# Altium footprint library WillsFootPrintLibrary.PcbLib: 33 footprints (part 3 of 3)
Each footprint in its own frame and in the unit in brackets; x right, y up, seen from the top. Pads: shape width x height; smd on the part's side, far side on the other; paste and mask are expansions set on the pad; w line width, h text height; cw(c..) or ccw(c..) is an arc to the next point about the centre after c.
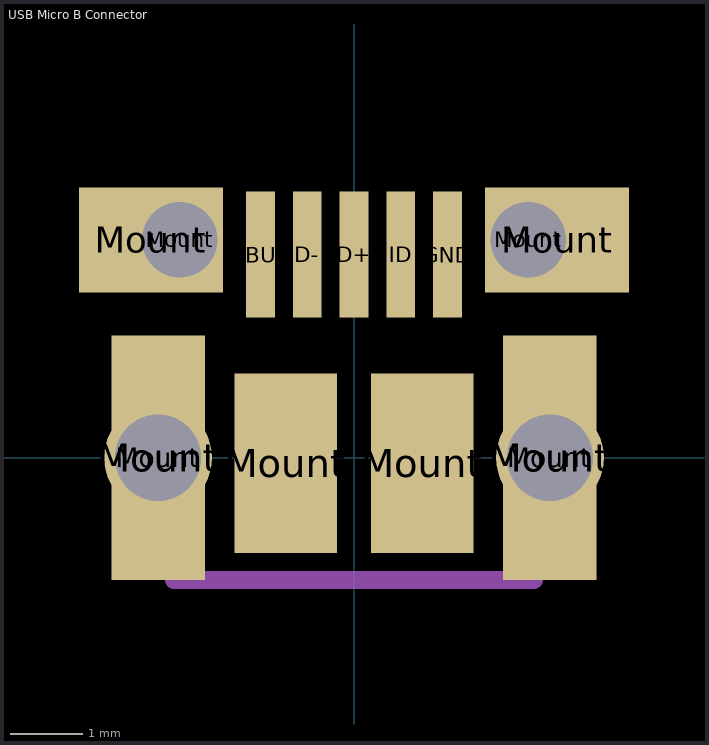
[diagram p2: the footprint, top view; thin cyan lines are the x and y axes]

## USB Micro B Connector [mm]
height 3
pads (15):
  rect 0.4x1.75 smd: D+(0,2.825) D-(-0.65,2.825) GND(1.3,2.825) ID(0.65,2.825) VBUS(-1.3,2.825)
  rect 2x1.46 all layers, no hole: Mount(-2.825,3.03) Mount(2.825,3.03)
  round 1.5 hole 1.2: Mount(-2.725,0) Mount(2.725,0)
  rect 1.3x3.4 smd: Mount(-2.725,0) Mount(2.725,0)
  round 1.2 hole 1.05: Mount(-2.425,3.03) Mount(2.425,3.03)
  rect 1.425x2.5 smd: Mount(-0.95,-0.075) Mount(0.95,-0.075)
Mechanical 1:
  lines w0.254: -2.5,-1.7 2.5,-1.7